# Altium integrated library cirrus-logic.IntLib: 3 symbols
Pins are listed as number, name and electrical type; pins without a type are passive.

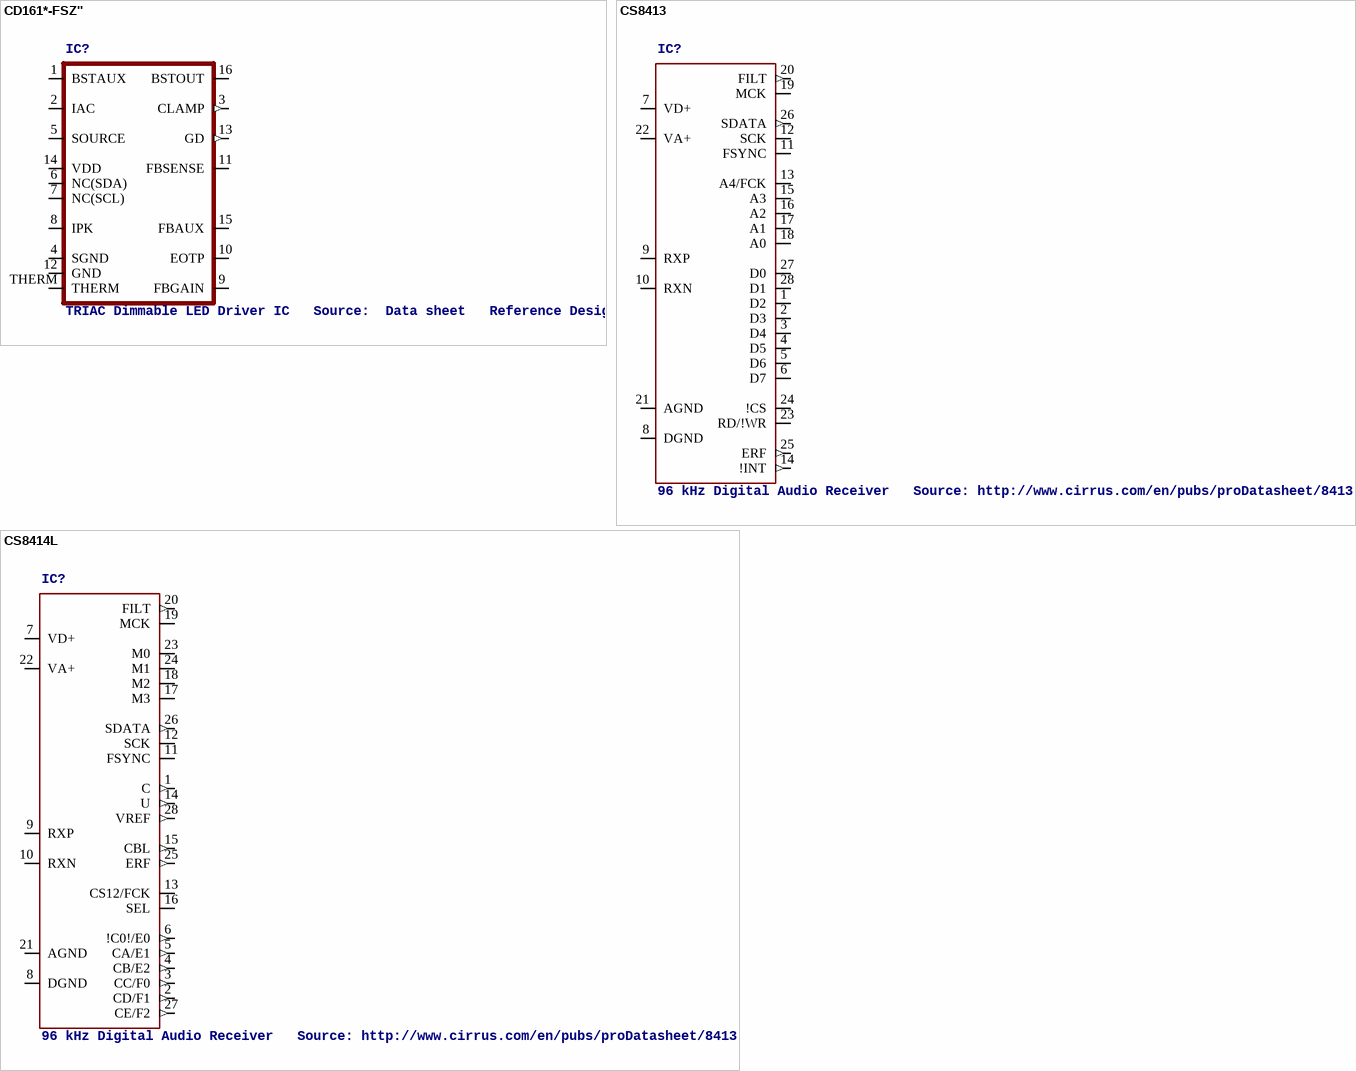
[diagram p0: symbols CD161*-FSZ'' to CS8414L]

## CD161*-FSZ''
designator IC?, comment TRIAC Dimmable LED Driver IC   Source:  Data sheet   Reference Design
VOLTAGE: 120VAC; VOLTAGE: 230VAC
footprint SOIC16
pins: 1 BSTAUX, 2 IAC, 3 CLAMP (out), 4 SGND (power), 5 SOURCE, 6 NC(SDA), 7 NC(SCL), 8 IPK, 9 FBGAIN, 10 EOTP, 11 FBSENSE, 12 GND (power), 13 GD (out), 14 VDD (power), 15 FBAUX, 16 BSTOUT, THERM

## CS8413
designator IC?, comment 96 kHz Digital Audio Receiver   Source: http://www.cirrus.com/en/pubs/proDatasheet/8413-4.pdf
MPN: CS8413CS; MF: CIRRUS LOGIC; OC_FARNELL: unknown; OC_NEWARK: 73C6130
footprint SO-28L
pins: 1 D2, 2 D3, 3 D4, 4 D5, 5 D6, 6 D7, 7 VD+ (power), 8 DGND (power), 9 RXP, 10 RXN, 11 FSYNC, 12 SCK, 13 A4/FCK, 14 !INT (out), 15 A3, 16 A2, 17 A1, 18 A0, 19 MCK, 20 FILT (out), 21 AGND (power), 22 VA+, 23 RD/!WR, 24 !CS, 25 ERF (out), 26 SDATA (out), 27 D0, 28 D1

## CS8414L
designator IC?, comment 96 kHz Digital Audio Receiver   Source: http://www.cirrus.com/en/pubs/proDatasheet/8413-4.pdf
MPN: CS8414-CSZR; OC_FARNELL: unknown; OC_NEWARK: 14N6027
footprint SO-28L
pins: 1 C (out), 2 CD/F1 (out), 3 CC/F0 (out), 4 CB/E2 (out), 5 CA/E1 (out), 6 !C0!/E0 (out), 7 VD+ (power), 8 DGND (power), 9 RXP, 10 RXN, 11 FSYNC, 12 SCK, 13 CS12/FCK, 14 U (out), 15 CBL (out), 16 SEL, 17 M3, 18 M2, 19 MCK, 20 FILT (out), 21 AGND (power), 22 VA+, 23 M0, 24 M1, 25 ERF (out), 26 SDATA (out), 27 CE/F2 (out), 28 VREF (out)